# Altium schematic symbol library Gremar_FController.SchLib: 53 symbols
Pins are listed as number, name and electrical type; pins without a type are passive.

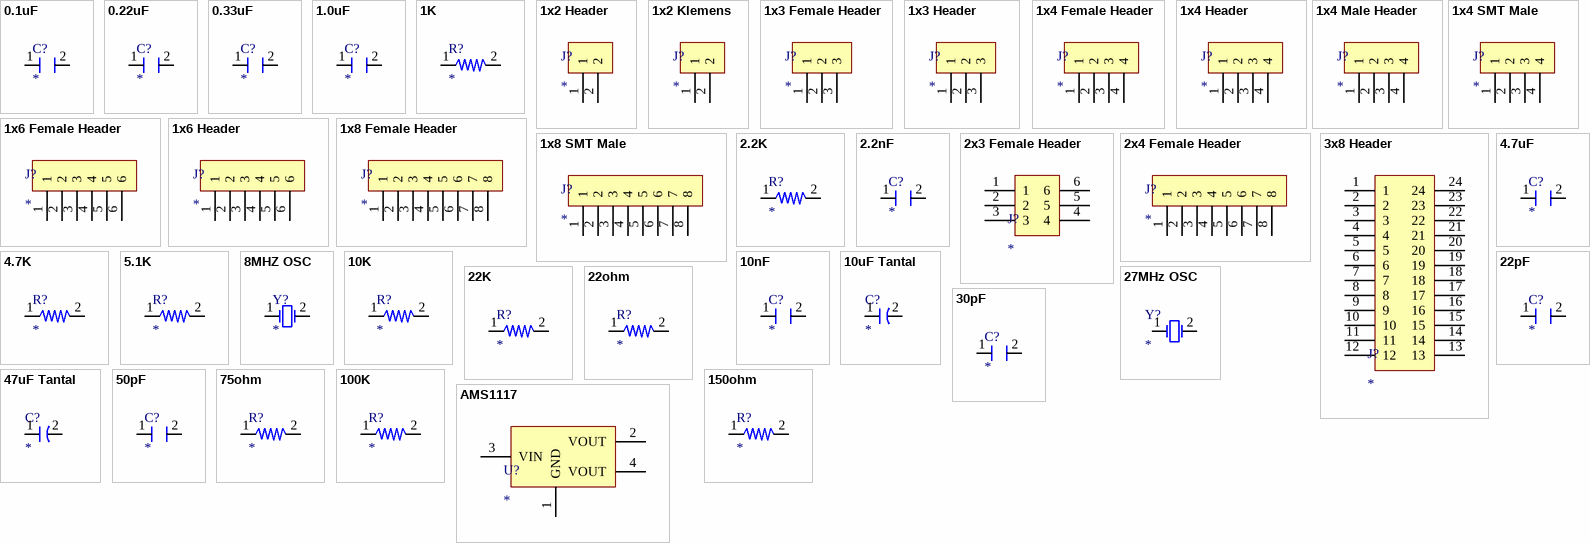
[diagram p0: symbols 0.1uF to AMS1117]

## 0.1uF
designator C?
0603 0.1uF Capacitor
footprint CAP - 0603 (Chip Capacitor, 2-Leads, Body 1.60x0.80mm, IPC Medium Density)
pins: 1, 2

## 0.22uF
designator C?
0603 0.22uF Capacitor
footprint CAP - 0603 (Chip Capacitor, 2-Leads, Body 1.60x0.80mm, IPC Medium Density)
pins: 1, 2

## 0.33uF
designator C?
0603 0.33uF Capacitor
footprint CAP - 0603 (Chip Capacitor, 2-Leads, Body 1.60x0.80mm, IPC Medium Density)
pins: 1, 2

## 1.0uF
designator C?
0603 1.0uF Capacitor
footprint CAP - 0603 (Chip Capacitor, 2-Leads, Body 1.60x0.80mm, IPC Medium Density)
pins: 1, 2

## 1K
designator R?
0603 1K Resistor
footprint RES - 0603 (Chip Resistor, 2-Leads, Body 1.60x0.80mm, IPC Medium Density)
pins: 1, 2

## 1x2 Header
designator J?
1x2 Header 2.54mm
footprint 1x2 Header (1x2 Header 2.54mm)
pins: 1, 2

## 1x2 Klemens
designator J?
1x2 Klemens
footprint 1x2 Klemens
pins: 1, 2

## 1x3 Female Header
designator J?
1x3 female header 2.54mm
footprint 1X3 Female Header (1X3 Female Header 1.2 hole size)
pins: 1, 2, 3

## 1x3 Header
designator J?
1x3 Header 2.54mm
footprint 1x3 Header (1x3 Header 2.54mm)
pins: 1, 2, 3

## 1x4 Female Header
designator J?
1x4 Female Header 2.54mm
footprint 1x4 Female Header (1x4 Female Header 2.54mm)
pins: 1, 2, 3, 4

## 1x4 Header
designator J?
1x4 Header 2.54mm
footprint 1x4 Header (1x4 Header 2.54mm)
pins: 1, 2, 3, 4

## 1x4 Male Header
designator J?
1x4 Male header
footprint 1x4 Male Header
pins: 1, 2, 3, 4

## 1x4 SMT Male
designator J?
1x4 SMT male header
footprint 1x4 SMT Header (1x4 SMT male header)
pins: 1, 2, 3, 4

## 1x6 Female Header
designator J?
1x6 Female header 2.54mm
footprint 1x6 FEMALE HEADER (1X6 FEMALE HEADER 2.54MM)
pins: 1, 2, 3, 4, 5, 6

## 1x6 Header
designator J?
1x6 Header 2.54mm
pins: 1, 2, 3, 4, 5, 6

## 1x8 Female Header
designator J?
1x8 Female Header 2.54mm
footprint 1x8 FEMALE HEADER (1x8 Female header 2.54mm)
pins: 1, 2, 3, 4, 5, 6, 7, 8

## 1x8 SMT Male
designator J?
1x8 SMT male header
footprint 1x8 SMT (1x8 SMT female header)
pins: 1, 2, 3, 4, 5, 6, 7, 8

## 2.2K
designator R?
0603 2.2K Resistor
footprint RES - 0603 (Chip Resistor, 2-Leads, Body 1.60x0.80mm, IPC Medium Density)
pins: 1, 2

## 2.2nF
designator C?
0603 2.2nF Capacitor
footprint CAP - 0603 (Chip Capacitor, 2-Leads, Body 1.60x0.80mm, IPC Medium Density)
pins: 1, 2

## 2x3 Female Header
designator J?
2x3 Female header 2.54mm
footprint 2x3 Male Header (2x3 Male header 2.54mm)
pins: 1, 2, 3, 4, 5, 6

## 2x4 Female Header
designator J?
2x4 Female Header 2.54mm
footprint 2x4 Female Header (2x4 Female Header 2.54mm)
pins: 1, 2, 3, 4, 5, 6, 7, 8

## 3x8 Header
designator J?
3x8 Headear 2.54mm
footprint 3x8 Header (3x8 Header 2.54mm)
pins: 1, 2, 3, 4, 5, 6, 7, 8, 9, 10, 11, 12, 13, 14, 15, 16, 17, 18, 19, 20, 21, 22, 23, 24

## 4.7K
designator R?
0603 4.7K Resistor
footprint RES - 0603 (Chip Resistor, 2-Leads, Body 1.60x0.80mm, IPC Medium Density)
pins: 1, 2

## 4.7uF
designator C?
0603 4.7uF Capacitor
footprint CAP - 0603 (Chip Capacitor, 2-Leads, Body 1.60x0.80mm, IPC Medium Density)
pins: 1, 2

## 5.1K
designator R?
0603 5.1K Resistor
footprint RES - 0603 (Chip Resistor, 2-Leads, Body 1.60x0.80mm, IPC Medium Density)
pins: 1, 2

## 8MHZ OSC
designator Y?
8MHz ±20ppm 20pF 80Ω SMD-5032_2P SMD Crystal Resonators RoHS
footprint 8MHZ RESONATOR (8MHz ±20ppm 20pF 80? SMD-5032_2P SMD Crystal Resonators RoHS)
pins: 1, 2

## 10K
designator R?
0603 10K Resistor
footprint RES - 0603 (Chip Resistor, 2-Leads, Body 1.60x0.80mm, IPC Medium Density)
pins: 1, 2

## 10nF
designator C?
0603 10nF Capacitor
footprint CAP - 0603 (Chip Capacitor, 2-Leads, Body 1.60x0.80mm, IPC Medium Density)
pins: 1, 2

## 10uF Tantal
designator C?
10uF 16V 3Ω@100kHz -55℃~+125℃ ±10% CASE-A_3216 Tantalum Capacitors ROHS
footprint 10uF Tantal (10uF 16V 3?@100kHz -55?~+125? ±10% CASE-A_3216 Tantalum Capacitors ROHS)
pins: 1, 2

## 22K
designator R?
0603 22K Resistor
footprint RES - 0603 (Chip Resistor, 2-Leads, Body 1.60x0.80mm, IPC Medium Density)
pins: 1, 2

## 22ohm
designator R?
0603 22ohm Resistor
footprint RES - 0603 (Chip Resistor, 2-Leads, Body 1.60x0.80mm, IPC Medium Density)
pins: 1, 2

## 22pF
designator C?
0603 22pF Capacitor
footprint CAP - 0603 (Chip Capacitor, 2-Leads, Body 1.60x0.80mm, IPC Medium Density)
pins: 1, 2

## 27MHz OSC
designator Y?
27MHz ±15ppm 20pF 50Ω SMD-5032_2P SMD Crystal Resonators RoHS
footprint 27MHZ OSC - 7A27000010 (27MHz ±15ppm 20pF 50? SMD-5032_2P SMD Crystal Resonators RoHS)
pins: 1, 2

## 30pF
designator C?
0603 30pF Capacitor
footprint CAP - 0603 (Chip Capacitor, 2-Leads, Body 1.60x0.80mm, IPC Medium Density)
pins: 1, 2

## 47uF Tantal
designator C?
0603 47uF Capacitor
footprint 10uF Tantal (10uF 16V 3?@100kHz -55?~+125? ±10% CASE-A_3216 Tantalum Capacitors ROHS)
pins: 1, 2

## 50pF
designator C?
0603 50pF Capacitor
footprint CAP - 0603 (Chip Capacitor, 2-Leads, Body 1.60x0.80mm, IPC Medium Density)
pins: 1, 2

## 75ohm
designator R?
0603 75ohm Resistor
footprint RES - 0603 (Chip Resistor, 2-Leads, Body 1.60x0.80mm, IPC Medium Density)
pins: 1, 2

## 100K
designator R?
0603 100K Resistor
footprint RES - 0603 (Chip Resistor, 2-Leads, Body 1.60x0.80mm, IPC Medium Density)
pins: 1, 2

## 150ohm
designator R?
0603 150ohm Resistor
footprint RES - 0603 (Chip Resistor, 2-Leads, Body 1.60x0.80mm, IPC Medium Density)
pins: 1, 2

## AMS1117
designator U?
3.3V REG, 72dB@(120Hz) 1A 1.3V@(800mA) Fixed 3.3V~3.3V Positive 1 SOT-223 Linear Voltage Regulators (LDO) ROHS
footprint AMS1117-3.3 (72dB@(120Hz) 1A 1.3V@(800mA) Fixed 3.3V~3.3V Positive 1 SOT-223 Linear Voltage Regulators (LDO) ROHS)
pins: 1 GND, 2 VOUT, 3 VIN, 4 VOUT

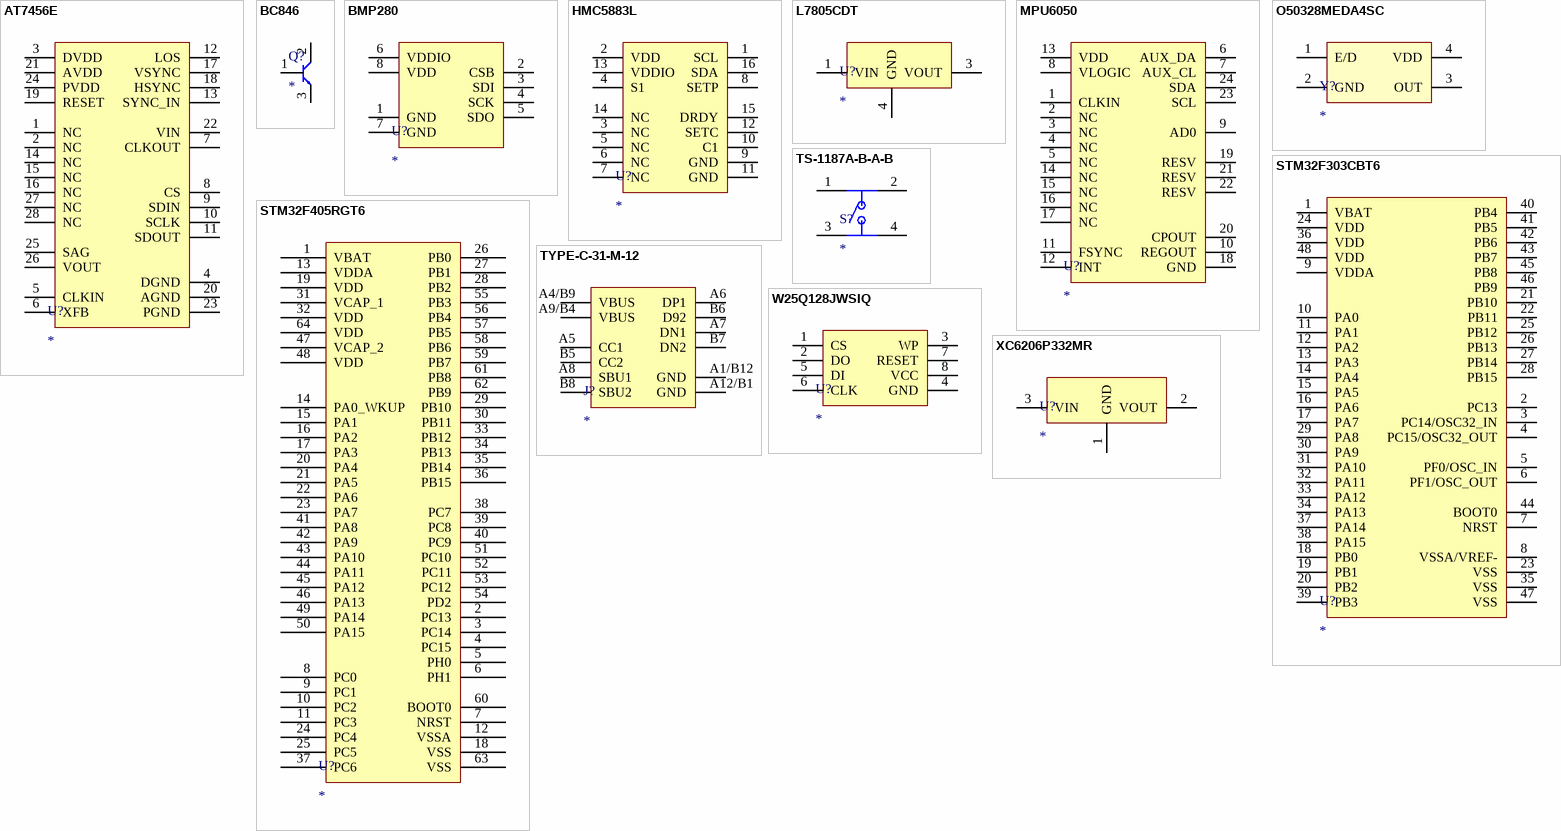
[diagram p1: symbols AT7456E to XC6206P332MR]

## AT7456E
designator U?
EEPROM, TSSOP-28 Microcontroller Units (MCUs/MPUs/SOCs) ROHS
footprint AT7456E (TSSOP-28 Microcontroller Units (MCUs/MPUs/SOCs) ROHS)
pins: 1 NC, 2 NC, 3 DVDD, 4 DGND, 5 CLKIN, 6 XFB, 7 CLKOUT, 8 CS, 9 SDIN, 10 SCLK, 11 SDOUT, 12 LOS, 13 SYNC_IN, 14 NC, 15 NC, 16 NC, 17 VSYNC, 18 HSYNC, 19 RESET, 20 AGND, 21 AVDD, 22 VIN, 23 PGND, 24 PVDD, 25 SAG, 26 VOUT, 27 NC, 28 NC

## BC846
designator Q?
SOT-23 NPN Transistor
footprint BC846 (SOT23127P600-8N)
pins: 1, 2, 3

## BMP280
designator U?
LGA-8 Gas Sensors ROHS
footprint BMP280 (LGA-8 Gas Sensors ROHS)
pins: 1 GND, 2 CSB, 3 SDI, 4 SCK, 5 SDO, 6 VDDIO, 7 GND, 8 VDD

## HMC5883L
designator U?
LCC-16 Magnetic Sensors ROHS
footprint HMC5883L (LCC-16 Magnetic Sensors ROHS)
pins: 1 SCL, 2 VDD, 3 NC, 4 S1, 5 NC, 6 NC, 7 NC, 8 SETP, 9 GND, 10 C1, 11 GND, 12 SETC, 13 VDDIO, 14 NC, 15 DRDY, 16 SDA

## L7805CDT
designator U?
5V REG, 62dB@(120Hz) 1.5A 2V@(1A) Fixed 5V~5V Positive 1 35V TO-252-3 Linear Voltage Regulators (LDO) ROHS
footprint L7805CDT-TR (62dB@(120Hz) 1.5A 2V@(1A) Fixed 5V~5V Positive 1 35V TO-252-3 Linear Voltage Regulators (LDO) ROHS)
pins: 1 VIN, 3 VOUT, 4 GND

## MPU6050
designator U?
QFN-24_4x4x05P Attitude Sensors ROHSs
footprint MPU-6050 (QFN-24_4x4x05P Attitude Sensors ROHS)
pins: 1 CLKIN, 2 NC, 3 NC, 4 NC, 5 NC, 6 AUX_DA, 7 AUX_CL, 8 VLOGIC, 9 AD0, 10 REGOUT, 11 FSYNC, 12 INT, 13 VDD, 14 NC, 15 NC, 16 NC, 17 NC, 18 GND, 19 RESV, 20 CPOUT, 21 RESV, 22 RESV, 23 SCL, 24 SDA

## O50328MEDA4SC
designator Y?
8MHz ±20ppm 3.3V 20mA SMD,5.0x3.2mm,4P SMD Oscillators(XO) RoHS
footprint 8MHZ OSC (8MHz ±20ppm 3.3V 20mA SMD,5.0x3.2mm,4P SMD Oscillators(XO) RoHS)
pins: 1 E/D (power) "Regulator Input Supply. Bypass IN to GND with a 1 uF or greater capacitor.", 2 GND (power) "Ground.", 3 OUT "Enable Input. Drive EN high to turn on the regulator; drive it low to turn off the regulator. For automatic startup, connect EN to IN.", 4 VDD "Connect a 1 nF or greater capacitor (10 nF is recommended) between BYP and GND to reduce the internal reference noise for low noise applications."

## STM32F303CBT6
designator U?
ARM® Cortex®-M4 72MHz FLASH 2V ~ 3.6V 32-Bit LQFP-48_7x7x05P ST Microelectronics ROHS
footprint STM32F303CBT6 (ARM® Cortex®-M4 72MHz FLASH 2V ~ 3.6V 32-Bit LQFP-48_7x7x05P ST Microelectronics ROHS)
pins: 1 VBAT, 2 PC13, 3 PC14/OSC32_IN, 4 PC15/OSC32_OUT, 5 PF0/OSC_IN, 6 PF1/OSC_OUT, 7 NRST, 8 VSSA/VREF-, 9 VDDA, 10 PA0, 11 PA1, 12 PA2, 13 PA3, 14 PA4, 15 PA5, 16 PA6, 17 PA7, 18 PB0, 19 PB1, 20 PB2, 21 PB10, 22 PB11, 23 VSS, 24 VDD, 25 PB12, 26 PB13, 27 PB14, 28 PB15, 29 PA8, 30 PA9, 31 PA10, 32 PA11, 33 PA12, 34 PA13, 35 VSS, 36 VDD, 37 PA14, 38 PA15, 39 PB3, 40 PB4, 41 PB5, 42 PB6, 43 PB7, 44 BOOT0, 45 PB8, 46 PB9, 47 VSS, 48 VDD

## STM32F405RGT6
designator U?
ARM® Cortex®-M4 168MHz FLASH 1.8V ~ 3.6V 32-Bit LQFP-64_10x10x05P ST Microelectronics ROHS
footprint STM32F405RGT6 (ARM® Cortex®-M4 168MHz FLASH 1.8V ~ 3.6V 32-Bit LQFP-64_10x10x05P ST Microelectronics ROHS)
pins: 1 VBAT, 2 PC13, 3 PC14, 4 PC15, 5 PH0, 6 PH1, 7 NRST, 8 PC0, 9 PC1, 10 PC2, 11 PC3, 12 VSSA, 13 VDDA, 14 PA0_WKUP, 15 PA1, 16 PA2, 17 PA3, 18 VSS, 19 VDD, 20 PA4, 21 PA5, 22 PA6, 23 PA7, 24 PC4, 25 PC5, 26 PB0, 27 PB1, 28 PB2, 29 PB10, 30 PB11, 31 VCAP_1, 32 VDD, 33 PB12, 34 PB13, 35 PB14, 36 PB15, 37 PC6, 38 PC7, 39 PC8, 40 PC9, 41 PA8, 42 PA9, 43 PA10, 44 PA11, 45 PA12, 46 PA13, 47 VCAP_2, 48 VDD, 49 PA14, 50 PA15, 51 PC10, 52 PC11, 53 PC12, 54 PD2, 55 PB3, 56 PB4, 57 PB5, 58 PB6, 59 PB7, 60 BOOT0, 61 PB8, 62 PB9, 63 VSS, 64 VDD

## TS-1187A-B-A-B
designator S?
No NO 50mA 5.1mm 100mΩ 100000 160gf 12V -30℃~+85℃ 5.1mm 1.5mm Golden Round Button Brick nogging SPST SMD Tactile Switches ROHS
footprint TS-1187A-B-A-B (No NO 50mA 5.1mm 100m? 100000 160gf 12V -30?~+85? 5.1mm 1.5mm Golden Round Button Brick nogging SPST SMD Tactile Switches ROHS)
pins: 1, 2, 3, 4

## TYPE-C-31-M-12
designator J?
250mA 1 16 Female Type-C SMD USB Connectors ROHS
footprint TYPE-C-31-M-12 (250mA 1 16 Female Type-C SMD USB Connectors ROHS)
pins: A1/B12 GND, A4/B9 VBUS, A5 CC1, A6 DP1, A7 DN1, A8 SBU1, A9/B4 VBUS, A12/B1 GND, B5 CC2, B6 D92, B7 DN2, B8 SBU2

## W25Q128JWSIQ
designator U?
SOIC-8_208mil NOR FLASH ROHS
footprint W25Q128JWSIQ (SOIC-8_208mil NOR FLASH ROHS)
pins: 1 CS, 2 DO, 3 WP, 4 GND, 5 DI, 6 CLK, 7 RESET, 8 VCC

## XC6206P332MR
designator U?
200mA 680mV@(100mA) Fixed 3.3V~3.3V Positive 1 6V SOT-23-3L Linear Voltage Regulators (LDO) ROHS
footprint XC6206P332MR (200mA 680mV@(100mA) Fixed 3.3V~3.3V Positive 1 6V SOT-23-3L Linear Voltage Regulators (LDO) ROHS)
pins: 1 GND, 2 VOUT, 3 VIN